# EAGLE library part N24C02UDTG (library parts)
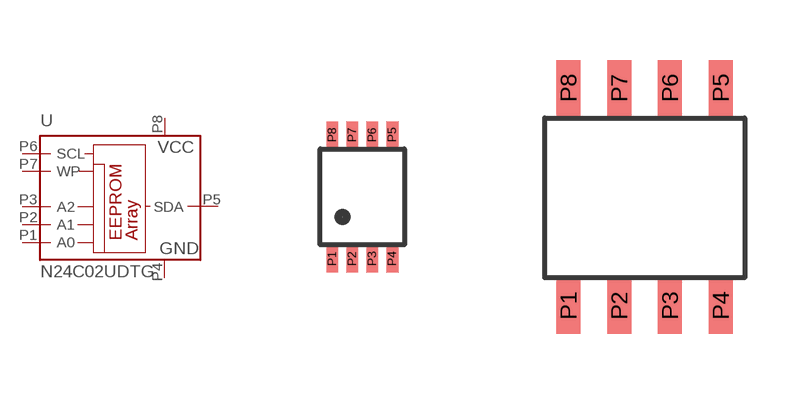
[diagram p6: symbol with the pads of 8-VFSOP; footprints 8-VFSOP, SO8N]

Designator prefix -

## N24C02UDTG  [8-VFSOP]
P1  A0  in
P2  A1  in
P3  A2  in
P4  GND  pwr
P5  SDA
P6  SCL  in
P7  WP  in
P8  VCC  pwr

## N24C02UDTGSO8N  [SO8N]
Pads as for 8-VFSOP

## N24C02UDTGTSSOP8  [TSSOP-8]
1  A0  in
2  A1  in
3  A2  in
4  GND  pwr
5  SDA
6  SCL  in
7  WP  in
8  VCC  pwr

## Footprint 8-VFSOP (pad centres in mm)
smd 0.3 x 0.68: P1 -0.75,-1.55; P2 -0.25,-1.55; P3 0.25,-1.55; P4 0.75,-1.55; P5 0.75,1.55; P6 0.25,1.55; P7 -0.25,1.55; P8 -0.75,1.55

## Footprint SO8N (pad centres in mm)
smd 0.6 x 1.4: P1 -1.905,-2.7; P2 -0.635,-2.7; P3 0.635,-2.7; P4 1.905,-2.7; P5 1.905,2.75; P6 0.635,2.75; P7 -0.635,2.75; P8 -1.905,2.75

## Footprint TSSOP-8 (pad centres in mm)
smd 1.3 x 0.4: 1 -2.9,0.975; 2 -2.9,0.325; 3 -2.9,-0.325; 4 -2.9,-0.975; 5 2.9,-0.975; 6 2.9,-0.325; 7 2.9,0.325; 8 2.9,0.975